# EAGLE library part MCP4661T-103E_ML (library MCP4661T-103E_ML)
MCP4661T-103E/ML, Digital Potentiometer Source: Datasheet <http://ww1.microchip.com/downloads/en/DeviceDoc/22096b.pdf>
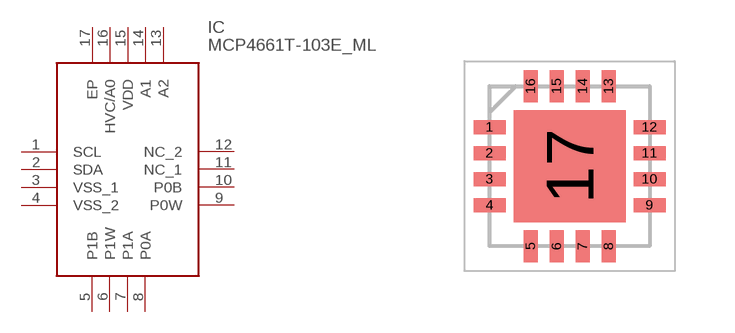
[diagram p0: symbol with the pads of QFN65P400X400X100-17N; footprint QFN65P400X400X100-17N]

Designator prefix IC

## MCP4661T-103E_ML (Arrow_Part_Number: MCP4661T-103E/ML; Arrow_Price-Stock: https://www.arrow.com/en/products/mcp4661t-103eml/microchip-technology; Description: MCP4661T-103E/ML, Digital Potentiometer; Height: 1mm; Manufacturer_Name: Microchip; Manufacturer_Part_Number: MCP4661T-103E/ML; RS_Part_Number: 8246431P; RS_Price-Stock: http://uk.rs-online.com/web/p/products/8246431P)  [QFN65P400X400X100-17N]
1  SCL
2  SDA
3  VSS_1
4  VSS_2
5  P1B
6  P1W
7  P1A
8  P0A
9  P0W
10  P0B
11  NC_1
12  NC_2
13  A2
14  A1
15  VDD
16  HVC/A0
17  EP

## Footprint QFN65P400X400X100-17N (pad centres in mm)
(ML)16-Lead(QFN)
smd 0.8 x 0.35: 1 -2,0.975; 2 -2,0.325; 3 -2,-0.325; 4 -2,-0.975; 9 2,-0.975; 10 2,-0.325; 11 2,0.325; 12 2,0.975
smd 0.35 x 0.8: 5 -0.975,-2; 6 -0.325,-2; 7 0.325,-2; 8 0.975,-2; 13 0.975,2; 14 0.325,2; 15 -0.325,2; 16 -0.975,2
smd 2.8 x 2.8: 17 0,0